# Altium footprint library IC.PcbLib: 9 footprints
Each footprint in its own frame and in the unit in brackets; x right, y up, seen from the top. Pads: shape width x height; smd on the part's side, far side on the other; paste and mask are expansions set on the pad; w line width, h text height; cw(c..) or ccw(c..) is an arc to the next point about the centre after c.
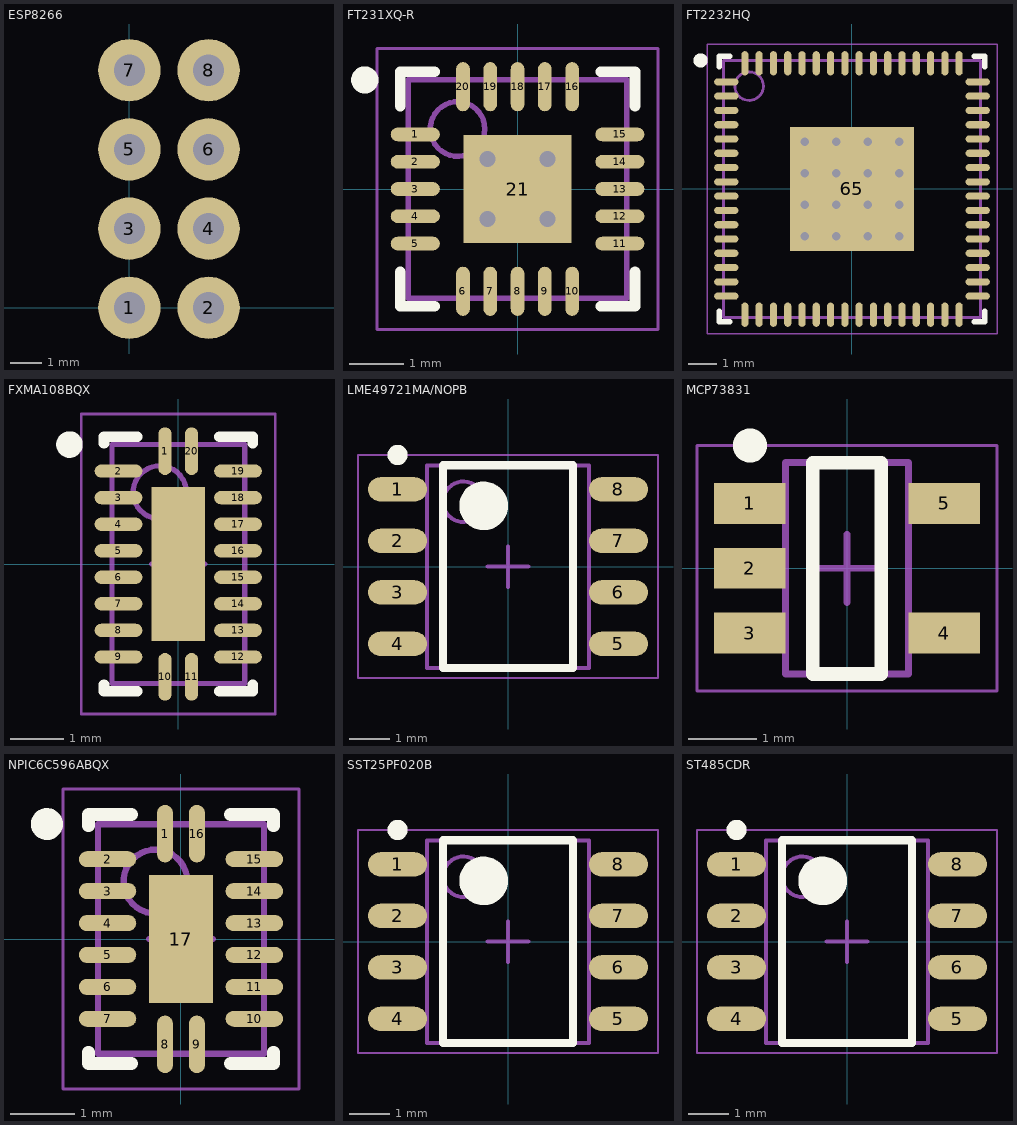
[diagram p0: the footprints below, top view; thin cyan lines are the x and y axes]

## ESP8266 [mm]
pads (8):
  round 2 hole 1: 1(0,0) 2(2.54,0) 3(0,2.54) 4(2.54,2.54) 5(0,5.08) 6(2.54,5.08) 7(0,7.62) 8(2.54,7.62)
3D body "User Library-ESP8266 ESP-01.step": height 5.88, standoff -5.8, extent -20.782,-3.429 4.018,11.071

## FT231XQ-R [mm] "QFN, 20-Leads, Body 4.00x4.00mm, Pitch 0.50mm, Thermal Pad 1.98x1.98mm, IPC Medium Density"
height 0.8
pads (21):
  oval 0.9x0.25 smd: 1(-1.875,1) 2(-1.875,0.5) 3(-1.875,0) 4(-1.875,-0.5) 5(-1.875,-1) 11(1.875,-1) 12(1.875,-0.5) 13(1.875,0) 14(1.875,0.5) 15(1.875,1)
  oval 0.25x0.9 smd: 6(-1,-1.875) 7(-0.5,-1.875) 8(0,-1.875) 9(0.5,-1.875) 10(1,-1.875) 16(1,1.875) 17(0.5,1.875) 18(0,1.875) 19(-0.5,1.875) 20(-1,1.875)
  rect 1.98x1.98 smd: 21(0,0)
via 0.55,-0.55 diameter 0.6 hole 0.3
via -0.55,-0.55 diameter 0.6 hole 0.3
via 0.55,0.55 diameter 0.6 hole 0.3
via -0.55,0.55 diameter 0.6 hole 0.3
Top Overlay:
  circle w0.25: c-2.8,2 r0.125
  lines w0.2: -2.15,-1.525 -2.15,-2.15 -1.525,-2.15 ; -2.15,1.525 -2.15,2.15 -1.525,2.15 ; 1.525,-2.15 2.15,-2.15 2.15,-1.525 ; 1.525,2.15 2.15,2.15 2.15,1.525
Mechanical 13:
  circle w0.1: c-1.1,1.1 r0.5
  lines w0.1: -2,-2 2,-2 2,2 -2,2 -2,-2
Mechanical 15:
  lines w0.05: -2.575,-2.575 2.575,-2.575 2.575,2.575 -2.575,2.575 -2.575,-2.575
  lines w0.1: -0.5,0 0.5,0 ; 0,-0.5 0,0.5
3D body "QFN50P400X400X80_HS-21N.step": height 0.8, standoff 0, extent -2.001,-2.001 2.001,2.001

## FT2232HQ [mm] "QFN, 64-Leads, Body 9.00x9.00mm, Pitch 0.50mm, Thermal Pad 4.35x4.35mm, IPC Medium Density"
height 0.9
pads (65):
  oval 0.85x0.25 smd: 1(-4.4,3.75) 2(-4.4,3.25) 3(-4.4,2.75) 4(-4.4,2.25) 5(-4.4,1.75) 6(-4.4,1.25) 7(-4.4,0.75) 8(-4.4,0.25) 9(-4.4,-0.25) 10(-4.4,-0.75) 11(-4.4,-1.25) 12(-4.4,-1.75) 13(-4.4,-2.25) 14(-4.4,-2.75) 15(-4.4,-3.25) 16(-4.4,-3.75) 33(4.4,-3.75) 34(4.4,-3.25) 35(4.4,-2.75) 36(4.4,-2.25) 37(4.4,-1.75) 38(4.4,-1.25) 39(4.4,-0.75) 40(4.4,-0.25) 41(4.4,0.25) 42(4.4,0.75) 43(4.4,1.25) 44(4.4,1.75) 45(4.4,2.25) 46(4.4,2.75) 47(4.4,3.25) 48(4.4,3.75)
  oval 0.25x0.85 smd: 17(-3.75,-4.4) 18(-3.25,-4.4) 19(-2.75,-4.4) 20(-2.25,-4.4) 21(-1.75,-4.4) 22(-1.25,-4.4) 23(-0.75,-4.4) 24(-0.25,-4.4) 25(0.25,-4.4) 26(0.75,-4.4) 27(1.25,-4.4) 28(1.75,-4.4) 29(2.25,-4.4) 30(2.75,-4.4) 31(3.25,-4.4) 32(3.75,-4.4) 49(3.75,4.4) 50(3.25,4.4) 51(2.75,4.4) 52(2.25,4.4) 53(1.75,4.4) 54(1.25,4.4) 55(0.75,4.4) 56(0.25,4.4) 57(-0.25,4.4) 58(-0.75,4.4) 59(-1.25,4.4) 60(-1.75,4.4) 61(-2.25,4.4) 62(-2.75,4.4) 63(-3.25,4.4) 64(-3.75,4.4)
  rect 4.35x4.35 smd: 65(0,0)
via 1.65,-1.65 diameter 0.6 hole 0.3
via 0.55,-1.65 diameter 0.6 hole 0.3
via -0.55,-1.65 diameter 0.6 hole 0.3
via -1.65,-1.65 diameter 0.6 hole 0.3
via 1.65,-0.55 diameter 0.6 hole 0.3
via 0.55,-0.55 diameter 0.6 hole 0.3
via -0.55,-0.55 diameter 0.6 hole 0.3
via -1.65,-0.55 diameter 0.6 hole 0.3
via 1.65,0.55 diameter 0.6 hole 0.3
via 0.55,0.55 diameter 0.6 hole 0.3
via -0.55,0.55 diameter 0.6 hole 0.3
via -1.65,0.55 diameter 0.6 hole 0.3
via 1.65,1.65 diameter 0.6 hole 0.3
via 0.55,1.65 diameter 0.6 hole 0.3
via -0.55,1.65 diameter 0.6 hole 0.3
via -1.65,1.65 diameter 0.6 hole 0.3
Top Overlay:
  circle w0.25: c-5.3,4.5 r0.125
  lines w0.2: -4.65,-4.275 -4.65,-4.65 -4.275,-4.65 ; -4.65,4.275 -4.65,4.65 -4.275,4.65 ; 4.275,-4.65 4.65,-4.65 4.65,-4.275 ; 4.275,4.65 4.65,4.65 4.65,4.275
Mechanical 13:
  circle w0.1: c-3.6,3.6 r0.5
  lines w0.1: -4.5,-4.5 4.5,-4.5 4.5,4.5 -4.5,4.5 -4.5,-4.5
Mechanical 15:
  lines w0.05: -5.075,-5.075 5.075,-5.075 5.075,5.075 -5.075,5.075 -5.075,-5.075
  lines w0.1: -0.5,0 0.5,0 ; 0,-0.5 0,0.5
3D body "QFN50P900X900X90_HS-65N.step": height 0.9, standoff 0, extent -4.501,-4.501 4.501,4.501

## FXMA108BQX [mm] "QFN, 20-Leads, Body 2.50x4.50mm, Pitch 0.50mm, Thermal Pad 1.00x2.90mm, IPC Medium Density"
height 0.8
pads (21):
  oval 0.25x0.9 smd: 1(-0.25,2.125) 10(-0.25,-2.125) 11(0.25,-2.125) 20(0.25,2.125)
  oval 0.9x0.25 smd: 2(-1.125,1.75) 3(-1.125,1.25) 4(-1.125,0.75) 5(-1.125,0.25) 6(-1.125,-0.25) 7(-1.125,-0.75) 8(-1.125,-1.25) 9(-1.125,-1.75) 12(1.125,-1.75) 13(1.125,-1.25) 14(1.125,-0.75) 15(1.125,-0.25) 16(1.125,0.25) 17(1.125,0.75) 18(1.125,1.25) 19(1.125,1.75)
  rect 1x2.9 smd: ""(0,0)
Top Overlay:
  circle w0.25: c-2.05,2.25 r0.125
  lines w0.2: -1.4,-2.275 -1.4,-2.4 -0.775,-2.4 ; -1.4,2.275 -1.4,2.4 -0.775,2.4 ; 0.775,-2.4 1.4,-2.4 1.4,-2.275 ; 0.775,2.4 1.4,2.4 1.4,2.275
Mechanical 13:
  circle w0.1: c-0.35,1.35 r0.5
  lines w0.1: -1.25,-2.25 -1.25,2.25 1.25,2.25 1.25,-2.25 -1.25,-2.25
Mechanical 15:
  lines w0.05: -1.825,-2.825 -1.825,2.825 1.825,2.825 1.825,-2.825 -1.825,-2.825
  lines w0.1: -0.5,0 0.5,0 ; 0,-0.5 0,0.5
3D body "QFN50P250X450X80_HS-21N.step": height 0.8, standoff 0, extent -1.251,-2.251 1.251,2.251

## LME49721MA/NOPB [mm] "SOIC, 8-Leads, Body 4.91x3.90mm, Pitch 1.27mm, IPC Medium Density"
height 1.75
pads (8):
  oval 1.45x0.6 smd: 1(-2.725,1.905) 2(-2.725,0.635) 3(-2.725,-0.635) 4(-2.725,-1.905) 5(2.725,-1.905) 6(2.725,-0.635) 7(2.725,0.635) 8(2.725,1.905)
Top Overlay:
  circle w0.6: c-0.6,1.5 r0.3
  circle w0.25: c-2.725,2.755 r0.125
  lines w0.2: -1.6,-2.5 1.6,-2.5 1.6,2.5 -1.6,2.5 -1.6,-2.5
Mechanical 13:
  circle w0.1: c-1.1,1.6 r0.5
  lines w0.1: -2,-2.5 2,-2.5 2,2.5 -2,2.5 -2,-2.5
Mechanical 15:
  lines w0.05: -3.7,-2.75 3.7,-2.75 3.7,2.75 -3.7,2.75 -3.7,-2.75
  lines w0.1: -0.5,0 0.5,0 ; 0,-0.5 0,0.5
3D body "SOIC127P600X175-8N.step": height 1.75, standoff 0, extent -2.997,-2.5 2.997,2.5
3D body: height 1.76, standoff 0.15, extent -1.397,-1.143 1.397,1.27

## MCP73831 [mm] "SOT23, 5-Leads, Body 2.90x2.70mm, Pitch 0.95mm, IPC Medium Density"
height 1.45
pads (5):
  rect 1.05x0.6 smd: 1(-1.425,0.95) 2(-1.425,0) 3(-1.425,-0.95) 4(1.425,-0.95) 5(1.425,0.95)
Top Overlay:
  circle w0.25: c-1.425,1.8 r0.125
  lines w0.2: -0.5,-1.55 0.5,-1.55 0.5,1.55 -0.5,1.55 -0.5,-1.55
Mechanical 13:
  lines w0.1: -0.9,-1.55 -0.9,1.55 0.9,1.55 0.9,-1.55 -0.9,-1.55
Mechanical 15:
  lines w0.05: -2.2,-1.8 -2.2,1.8 2.2,1.8 2.2,-1.8 -2.2,-1.8
  lines w0.1: -0.5,0 0.5,0 ; 0,-0.5 0,0.5
3D body "SOT95P270X145-5N.step": height 1.45, standoff 0, extent -1.7,-1.55 1.7,1.55

## NPIC6C596ABQX [mm] "QFN, 16-Leads, Body 2.50x3.50mm, Pitch 0.50mm, Thermal Pad 1.00x2.00mm, IPC Medium Density"
height 1
pads (17):
  oval 0.25x0.9 smd: 1(-0.25,1.65) 8(-0.25,-1.65) 9(0.25,-1.65) 16(0.25,1.65)
  oval 0.9x0.25 smd: 2(-1.15,1.25) 3(-1.15,0.75) 4(-1.15,0.25) 5(-1.15,-0.25) 6(-1.15,-0.75) 7(-1.15,-1.25) 10(1.15,-1.25) 11(1.15,-0.75) 12(1.15,-0.25) 13(1.15,0.25) 14(1.15,0.75) 15(1.15,1.25)
  rect 1x2 smd: 17(0,0)
Top Overlay:
  circle w0.25: c-2.1,1.8 r0.125
  lines w0.2: -1.45,-1.775 -1.45,-1.95 -0.775,-1.95 ; -1.45,1.775 -1.45,1.95 -0.775,1.95 ; 0.775,-1.95 1.45,-1.95 1.45,-1.775 ; 0.775,1.95 1.45,1.95 1.45,1.775
Mechanical 13:
  circle w0.1: c-0.4,0.9 r0.5
  lines w0.1: -1.3,-1.8 -1.3,1.8 1.3,1.8 1.3,-1.8 -1.3,-1.8
Mechanical 15:
  lines w0.05: -1.85,-2.35 -1.85,2.35 1.85,2.35 1.85,-2.35 -1.85,-2.35
  lines w0.1: -0.5,0 0.5,0 ; 0,-0.5 0,0.5
3D body "QFN50P250X350X100_HS-17N.step": height 1, standoff 0, extent -1.35,-1.85 1.35,1.85

## SST25PF020B [mm]
height 1.75
pads (8):
  oval 1.45x0.6 smd: 1(-2.725,1.905) 2(-2.725,0.635) 3(-2.725,-0.635) 4(-2.725,-1.905) 5(2.725,-1.905) 6(2.725,-0.635) 7(2.725,0.635) 8(2.725,1.905)
Top Overlay:
  circle w0.6: c-0.6,1.5 r0.3
  circle w0.25: c-2.725,2.755 r0.125
  lines w0.2: -1.6,-2.5 1.6,-2.5 1.6,2.5 -1.6,2.5 -1.6,-2.5
Mechanical 13:
  circle w0.1: c-1.1,1.6 r0.5
  lines w0.1: -2,-2.5 2,-2.5 2,2.5 -2,2.5 -2,-2.5
Mechanical 15:
  lines w0.05: -3.7,-2.75 3.7,-2.75 3.7,2.75 -3.7,2.75 -3.7,-2.75
  lines w0.1: -0.5,0 0.5,0 ; 0,-0.5 0,0.5
3D body "SOIC127P600X175-8N.step": height 1.75, standoff 0, extent -3,-2.5 3,2.5

## ST485CDR [mm] "SOIC, 8-Leads, Body 4.90x3.90mm, Pitch 1.27mm, IPC Medium Density"
height 1.75
pads (8):
  oval 1.45x0.6 smd: 1(-2.725,1.905) 2(-2.725,0.635) 3(-2.725,-0.635) 4(-2.725,-1.905) 5(2.725,-1.905) 6(2.725,-0.635) 7(2.725,0.635) 8(2.725,1.905)
Top Overlay:
  circle w0.6: c-0.6,1.5 r0.3
  circle w0.25: c-2.725,2.755 r0.125
  lines w0.2: -1.6,-2.5 1.6,-2.5 1.6,2.5 -1.6,2.5 -1.6,-2.5
Mechanical 13:
  circle w0.1: c-1.1,1.6 r0.5
  lines w0.1: -2,-2.5 2,-2.5 2,2.5 -2,2.5 -2,-2.5
Mechanical 15:
  lines w0.05: -3.7,-2.75 3.7,-2.75 3.7,2.75 -3.7,2.75 -3.7,-2.75
  lines w0.1: -0.5,0 0.5,0 ; 0,-0.5 0,0.5
3D body "SOIC127P600X175-8N.step": height 1.75, standoff 0, extent -3,-2.5 3,2.5
3D body: height 1.75, standoff 0.5, extent -1.651,-1.143 1.651,1.143